# Altium schematic symbol library ARCOM_Transistors.SchLib: 48 symbols
Pins are listed as number, name and electrical type; pins without a type are passive.

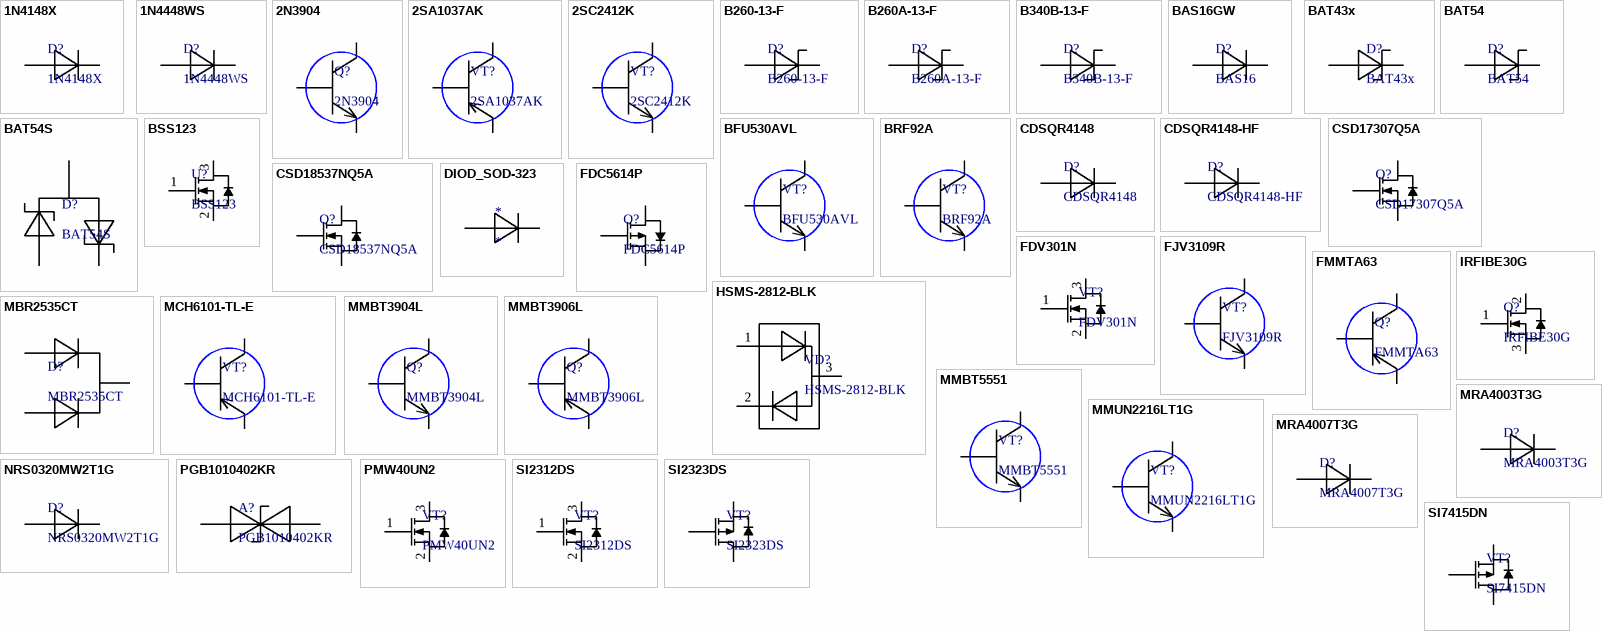
[diagram p0: symbols 1N4148X to SI7415DN]

## 1N4148X
designator D?
200mW Switching Diodes; Manufacturer: Micro Commercial Components; ComponentLink1Description: Manufacturer; ComponentLink2Description: Datasheet; Manufacturer P/N: 1N4148X; Part: 1N4148X; Family: Diodes&Transistors
footprint SOD-523
pins: 1 K, 2 A

## 1N4448WS
designator D?
Small Signal Diode; Manufacturer: ON Semiconductor; ComponentLink1Description: Manufacturer; ComponentLink1URL: https://www.onsemi.com/; ComponentLink2Description: Datasheet; ComponentLink2URL: https://www.mouser.com/datasheet/2/308/1N914BWS-D-1801390.pdf; Family: Diodes&Transistors; Manufacturer P/N: 1N4448WS; Part: 1N4448WS
footprint SOD-323
pins: 1 K, 2 A

## 2N3904
designator Q?
NPN General Purpose Transistors; Manufacturer: ON Semiconductor; ComponentLink1Description: Manufacturer; ComponentLink1URL: http://onsemi.com; ComponentLink2Description: Datasheet; ComponentLink2URL: https://www.onsemi.com/pub/Collateral/2N3903-D.PDF; Family: Diodes&Transistors; Manufacturer p/n: 2N3904; Part: 2N3904
pins: 1 E, 2 B, 3 C

## 2SA1037AK
designator VT?
PNP General Purpose Transistor; Manufacturer: ROHM; ComponentLink1Description: Manufacturer; ComponentLink1URL: www.rohm.com; ComponentLink2Description: Datasheet; ComponentLink2URL: http://rohmfs.rohm.com/en/products/databook/datasheet/discrete/transistor/bipolar/2sa1037ak.pdf; Manufacturer P/N: 2SA1037AK; Part: 2SA1037AK; Family: Diodes&Transistors
footprint AO-SOT23-3_V (SOT23, 3-Leads, Body 3.016x2.8mm, Pitch 0.95mm)
pins: 1 B, 2 E, 3 C

## 2SC2412K
designator VT?
General Purpose Transistor; Manufacturer: Rohm Electronics USA, LLC; ComponentLink1Description: Manufacturer; ComponentLink2Description: Datasheet; Manufacturer P/N: 2SC2412K; Part: 2SC2412K; Family: Diodes&Transistors
footprint Model Name (Footprint not found)
footprint SOT-346
pins: 1 B, 2 E, 3 C

## B260-13-F
designator D?
Schottky Diode; Manufacturer: Diodes Incorporated; ComponentLink1Description: Manufacturer; ComponentLink1URL: *; ComponentLink2Description: Datasheet; ComponentLink2URL: http://www.mouser.com/ds/2/115/ds13004-70120.pdf; Manufacturer P/N: B260-13-F; Part: B260-13-F; Family: Diodes&Transistors
footprint SMB_Arcom
pins: 1 A, 2 K

## B260A-13-F
designator D?
Schottky Diode; Manufacturer: Diodes Incorporated; ComponentLink1Description: Manufacturer; ComponentLink1URL: *; ComponentLink2Description: Datasheet; ComponentLink2URL: http://www.mouser.com/ds/2/115/ds13004-70120.pdf; Manufacturer P/N: B260A-13-F; Part: B260A-13-F; Family: Diodes&Transistors
footprint SMA
pins: 1 A, 2 K

## B340B-13-F
designator D?
3.0A surface mount Schottky barrier rectifier; Manufacturer: Diodes Incorporated; .Checked: 20180221; ComponentLink1Description: Manufacturer; ComponentLink1URL: https://www.diodes.com/; ComponentLink2Description: Datasheet; ComponentLink2URL: https://www.diodes.com/assets/Datasheets/ds30924.pdf; Manufacturer P/N: B340B-13-F; Part: B340B-13-F; Family: Diodes&Transistors
footprint SMB_Arcom
pins: 1 A, 2 K

## BAS16GW
designator D?, comment BAS16
High-speed switching diode; Manufacturer: Nexperia; Manufacturer P/N: BAS16GW; ComponentLink1Description: *; ComponentLink1URL: *; ComponentLink2Description: *; ComponentLink2URL: *; Family: *; Part: BAS16GW
footprint SOD-123F
pins: 1 A, 2 K

## BAT43x
designator D?
Schottky Diode; ComponentLink1Description: *; ComponentLink1URL: *; ComponentLink2Description: *; ComponentLink2URL: *; Manufacturer: *; Manufacturer p/n: *; family: *; Part: *
footprint FAIR-SOD-523F-2_V (SMD, 2-Leads, Body 1.2x0.8mm, Height 0.7mm)
pins: 1 A, 2 K

## BAT54
designator D?
Schottky Barrier Diode; Manufacturer: ON Semiconductor; Manufacturer P/N: BAT54LT1G; ComponentLink1Description: Manufacturer; ComponentLink1URL: www.onsemi.com/; ComponentLink2Description: Datasheet; ComponentLink2URL: https://www.mouser.com/datasheet/2/308/BAT54LT1-D-104526.pdf; Part: BAT54LT1G; Family: Diodes&Transistors
footprint AO-SOT23-3_V (SOT23, 3-Leads, Body 3.016x2.8mm, Pitch 0.95mm)
pins: 1 A, 3 K

## BAT54S
designator D?
Schottky Barrier Diode; Manufacturer: Diodes Incorporated; Manufacturer P/N: BAT54S-7-F; ComponentLink1Description: Manufacturer; ComponentLink2Description: Datasheet; Part: BAT54S; Family: Diodes&Transistors
footprint AO-SOT23-3_V (SOT23, 3-Leads, Body 3.016x2.8mm, Pitch 0.95mm)
pins: 1 A, 2 K, 3 K

## BFU530AVL
designator VT?
Silicon NPN Planar RF Transistor; Manufacturer: NXP Semiconductor; MarkingSMD: HY* :*=t made in Malaysia, *=w made in China; ComponentLink1Description: Manufacturer; ComponentLink1URL: http://www.nxp.com; ComponentLink2Description: Datasheet; ComponentLink2URL: http://www.mouser.com/ds/2/302/BFU530A-840762.pdf; Manufacturer P/N: BFU530AVL; Part: BFU530AVL; Family: Diodes&Transistors
footprint AO-SOT23-3_V (Footprint not found)
pins: 1 B, 2 E, 3 C

## BRF92A
designator VT?
Obsolete! Use BFU530AVL instead.; Manufacturer: Philips Semiconductors; MarkingSMD: +P2; ComponentLink1Description: Manufacturer; ComponentLink2Description: Datasheet; ComponentLink2URL: http://pdf.datasheetcatalog.com/datasheet/vishay/85033.pdf; Manufacturer P/N: BRF92A; Part: BRF92A; Family: Diodes&Transistors
footprint AO-SOT23-3_V (Footprint not found)
pins: 1 B, 2 E, 3 C

## BSS123
designator U?
N-Channel Power MOSFET Transistor
pins: 1 G, 2 S, 3 D

## CDSQR4148
designator D?
Switching Diode; ComponentLink1Description: *; ComponentLink1URL: *; ComponentLink2Description: *; ComponentLink2URL: *; Family: *; Manufacturer: *; Manufacturer P/N: *; Part: *
footprint SOD-923F
pins: 1 A, 2 K

## CDSQR4148-HF
designator D?
Switching Diode; Manufacturer: Comchip Technology CO., LTD.; ComponentLink1Description: Manufacturer; ComponentLink1URL: https://www.comchiptech.com/; ComponentLink2Description: Datasheet; ComponentLink2URL: https://www.comchiptech.com/admin/files/product/CDSQR4148-HF-RevC213424.pdf; Family: Transistors; Manufacturer P/N: CDSQR4148-HF; Part: CDSQR4148-HF
footprint SOD-923F
footprint SOD-923F - new
pins: 1 A, 2 K

## CSD17307Q5A
designator Q?
30V, N-channel NexFET Power Mosfet; Manufacturer: Texas Instruments; ComponentLink1Description: Manufacturer; ComponentLink1URL: www.ti.com; ComponentLink2Description: Datasheet; ComponentLink2URL: http://www.ti.com/lit/ds/symlink/csd17307q5a.pdf; family: Transistors; Manufacturer P/N: CSD17307Q5A; Part: CSD17307Q5A
footprint CSD17307Q5A
pins: 1 S, 2 G, 3 D

## CSD18537NQ5A
designator Q?
30V, N-channel NexFET Power Mosfet; Manufacturer: Texas Instruments; ComponentLink1Description: Manufacturer; ComponentLink1URL: www.ti.com; ComponentLink2Description: Datasheet; ComponentLink2URL: http://www.ti.com/lit/ds/symlink/csd18537nq5a.pdf; family: Transistors; Manufacturer P/N: CSD18537NQ5A; Part: CSD18537NQ5A
footprint CSD17307Q5A
pins: 1 S, 2 G, 3 D

## DIOD_SOD-323
designator *
footprint SOD-323
pins: 1 C, 2 A

## FDC5614P
designator Q?
60V, P-channel Logic Level PowerTrench MOSFET; Manufacturer: Fairchild; Manufacturer P/N: FDC5614P; ComponentLink1Description: Manufacturer; ComponentLink1URL: *; ComponentLink2Description: Datasheet; ComponentLink2URL: *; Family: Diodes&Transistors; Part: FDC5614P
footprint SSOT-6
pins: 1 D, 3 G, 4 S

## FDV301N
designator VT?
Digital FET, N-channel; Manufacturer: ON Semiconductor; Marking: 301; ComponentLink1Description: Manufacturer; ComponentLink1URL: https://www.onsemi.com; ComponentLink2Description: Datasheet; ComponentLink2URL: https://www.onsemi.com/pub/Collateral/FDV301N-D.PDF; Manufacturer P/N: FDV301N; Part: FDV301N; Family: Diodes&Transistors
footprint AO-SOT23-3_V (SOT23, 3-Leads, Body 3.016x2.8mm, Pitch 0.95mm)
pins: 1 G, 2 S, 3 D

## FJV3109R
designator VT?
Obsolete! Use MMUN2216LT1G instead.; Manufacturer: Fairchild; MarkingSMD: R29; ComponentLink1Description: Manufacturer; ComponentLink1URL: https://www.fairchildsemi.com/; ComponentLink2Description: Datasheet; ComponentLink2URL: http://pdf.datasheetcatalog.com/datasheet/fairchild/FJV3109R.pdf; Manufacturer P/N: FJV3109R; Part: FJV3109R; Family: Diodes&Transistors
footprint AO-SOT23-3_V (SOT23, 3-Leads, Body 3.016x2.8mm, Pitch 0.95mm)
pins: 1 B, 2 E, 3 C

## FMMTA63
designator Q?
Sot23 pnp Silicon Planar Darlington Transistor; Manufacturer: Atmel; Marking SMD: Z2U; ComponentLink1Description: *; ComponentLink1URL: *; ComponentLink2Description: *; ComponentLink2URL: *; Manufacturer p/n: FMMTA63; Family: Transistors; Part: FMMTA63
pins: 1 B, 2 E, 3 C

## HSMS-2812-BLK
designator VD?
Surface mount RF Schottky Barrier Diodes; Manufacturer: Agilent Technologies; ComponentLink1Description: Manufacturer; ComponentLink1URL: *; ComponentLink2Description: Datasheet; ComponentLink2URL: http://pdf1.alldatasheet.com/datasheet-pdf/view/155573/HP/HSMS-2812-BLK.html; Manufacturer P/N: HSMS-2812-BLK; Part: HSMS-2812-BLK; Family: Diodes&Transistors
footprint HSMS-2812
pins: 1, 2, 3

## IRFIBE30G
designator Q?
N-channel Power Mosfet; Manufacturer: Vishay; ComponentLink1Description: *; ComponentLink1URL: *; ComponentLink2Description: Datasheet; ComponentLink2URL: http://www.vishay.com/docs/91184/91184.pdf; Family: Diodes&Transistors; Manufacturer p/n: IRFIBE30G; Part: IRFIBE30G
pins: 1 G, 2 D, 3 S

## MBR2535CT
designator D?
Switch-mode Power Rectifiers; Manufacturer: ON Semiconductor; ComponentLink1Description: *; ComponentLink1URL: *; ComponentLink2Description: Datasheet; ComponentLink2URL: https://www.onsemi.com/pub/Collateral/MBR2535CT-D.PDF; Family: Diodes&Transistors; Manufacturer p/n: MBR2535CT; Part: MBR2535CT
pins: 1 A, 2 K, 3 A, 4 K

## MCH6101-TL-E
designator VT?
PNP Bipolar Transistor, -15V, -1.5A; Manufacturer: ON Semiconductor; ComponentLink1Description: Manufacturer; ComponentLink2Description: Datasheet; Manufacturer P/N: MCH6101-TL-E; Part: MCH6101-TL-E; Family: Diodes&Transistors
footprint ONSC-MCPH-6_V (SOT23, 6-Leads, Body 2x1.6mm, Pitch 0.65mm)
pins: 1 C, 2 C, 3 B, 4 E, 5 C, 6 C

## MMBT3904L
designator Q?
NPN General Purpose Transistor; Manufacturer: ON Semiconductor; Marking SMD: 1AM; ComponentLink1Description: *; ComponentLink1URL: *; ComponentLink2Description: *; ComponentLink2URL: *; Family: Transistors; Manufacturer p/n: MMBT3904L; Part: MMBT3904L
pins: 1 B, 2 E, 3 C

## MMBT3906L
designator Q?
PNP General Purpose Transistor; Manufacturer: ON Semiconductor; Marking SMD: 2A; ComponentLink1Description: *; ComponentLink1URL: *; ComponentLink2Description: *; ComponentLink2URL: *; Family: Transistors; Manufacturer p/n: MMBT3906L; Part: MMBT3906L
pins: 1 B, 2 E, 3 C

## MMBT5551
designator VT?
NPN General Purpose Transistor; Manufacturer: Fairchild; MarkingSMD: 3S; ComponentLink1Description: Manufacturer; ComponentLink1URL: https://www.fairchildsemi.com/; ComponentLink2Description: Datasheet; ComponentLink2URL: http://www.cordellaudio.com/book/datasheets/2N5551.pdf; Manufacturer P/N: MMBT5551; Part: MMBT5551; Family: Diodes&Transistors
footprint AO-SOT23-3_V (SOT23, 3-Leads, Body 3.016x2.8mm, Pitch 0.95mm)
pins: 1 B, 2 E, 3 C

## MMUN2216LT1G
designator VT?
NPN Transistor with Monolithic Bias Resistor Network; Manufacturer: On Semi; MarkingSMD: A8F; ComponentLink1Description: Manufacturer; ComponentLink1URL: https://www.onsemi.com/; ComponentLink2Description: Datasheet; ComponentLink2URL: http://www.mouser.com/ds/2/308/DTC143T-D-462120.pdf; Manufacturer P/N: MMUN2216LT1G; Part: MMUN2216LT1G; Family: Diodes&Transistors
footprint AO-SOT23-3_V (SOT23, 3-Leads, Body 3.016x2.8mm, Pitch 0.95mm)
pins: 1 B, 2 E, 3 C

## MRA4003T3G
designator D?
Surface Mount Standard Recovery Power Rectifier; Manufacturer: ON Semiconductor; ComponentLink1Description: Manufacturer; ComponentLink1URL: https://www.onsemi.com/; ComponentLink2Description: Datasheet; ComponentLink2URL: https://www.onsemi.com/pub/Collateral/MRA4003T3-D.PDF; Manufacturer P/N: MRA4003T3G; Part: MRA4003T3G; Family: Diodes&Transistors
footprint SMA
pins: 1 A, 2 K

## MRA4007T3G
designator D?
Surface Mount Standard Recovery Power Rectifier; Manufacturer: ON Semiconductor; ComponentLink1Description: Manufacturer; ComponentLink1URL: https://www.onsemi.com/; ComponentLink2Description: Datasheet; Manufacturer P/N: MRA4007T3G; Part: MRA4007T3G; Family: Diodes&Transistors
footprint SMA
pins: 1 A, 2 K

## NRS0320MW2T1G
designator D?
HIGH CURRENT  SCHOTTKY BARRIER DIODE; Manufacturer: ON Semiconductor; ComponentLink1Description: Manufacturer; ComponentLink1URL: https://www.onsemi.com/; ComponentLink2Description: Datasheet; ComponentLink2URL: https://www.mouser.com/datasheet/2/308/NSR0320MW2T1_D-1815653.pdf; Family: Diodes&Transistors; Manufacturer P/N: NRS0320MW2T1G; Part: NRS0320MW2T1G
footprint SOD-323
pins: 1 K, 2 A

## PGB1010402KR
designator A?
Surface mount Polimeric ESD Suppressors; Manufacturer: LittelFuse; ComponentLink1Description: Manufacturer; ComponentLink1URL: http://www.littelfuse.com; ComponentLink2Description: Datasheet; ComponentLink2URL: http://www.littelfuse.com/data/en/data_sheets/littelfuse_pulseguard_esd_pgb1.pdf; Manufacturer P/N: PGB1010402KR; Part: PGB1010402KR; Family: Diodes&Transistors
footprint C0402_L (Chip Capacitor, Body 1.0x0.5mm, Height 0.6mm, IPC High Density)
footprint C0402_M (Chip Capacitor, Body 1.0x0.5mm, Height 0.6mm, IPC Low Density)
footprint C0402_N (Chip Capacitor, Body 1.0x0.5mm, Height 0.6mm, IPC Medium Density)
pins: 1 A1, 2 A2

## PMW40UN2
designator VT?
N-Channel  30V Trench MOSFET; Manufacturer: NXP; Manufacturer P/N: PMW40U2; ComponentLink1Description: Manufacturer; ComponentLink1URL: http://www.nxp.com/; ComponentLink2Description: Datasheet; ComponentLink2URL: http://www.nxp.com/documents/data_sheet/PMV40UN2.pdf; family: Diodes&Transistors; Part: PMW40U2
footprint NXP-SOT23_L (SOT23, 3-Leads, Body 3x1.4mm, Pitch 0.95mm, IPC High Density)
footprint NXP-SOT23_M (SOT23, 3-Leads, Body 3x1.4mm, Pitch 0.95mm, IPC Low Density)
footprint NXP-SOT23_N (SOT23, 3-Leads, Body 3x1.4mm, Pitch 0.95mm, IPC Medium Density)
pins: 1 G, 2 S, 3 D

## SI2312DS
designator VT?
N-Channel  20V (D-S) MOSFET; Manufacturer: Vishay Siliconix; ComponentLink1Description: Manufacturer; ComponentLink1URL: http://www.vishay.com; ComponentLink2Description: Datasheet; ComponentLink2URL: http://www.vishay.com/docs/71338/si2312ds.pdf; Manufacturer P/N: Si2312DS; Part: Si2312DS; ComponentLink3Description: R-C Thermal Model Parameters; ComponentLink3URL: http://www.vishay.com/docs/65949/SI2312CD.pdf; Family: Diodes&Transistors
footprint AO-SOT23-3_V (SOT23, 3-Leads, Body 3.016x2.8mm, Pitch 0.95mm)
pins: 1 G, 2 S, 3 D

## SI2323DS
designator VT?
P-Channel  20V (D-S) MOSFET; Manufacturer: Vishay Siliconix; Manufacturer P/N: SI2323DS-T1-E3; ComponentLink1Description: Manufacturer; ComponentLink1URL: http://www.vishay.com; ComponentLink2Description: Datasheet; ComponentLink2URL: http://www.farnell.com/datasheets/1866497.pdf; Part: SI2323DS; ComponentLink3Description: Datasheet2; Family: Diodes&Transistors
footprint AO-SOT23-3_V (SOT23, 3-Leads, Body 3.016x2.8mm, Pitch 0.95mm)
pins: 1 G, 2 S, 3 D

## SI7415DN
designator VT?
P-Channel  60V (D-S) MOSFET; Manufacturer: Vishay Siliconix; ComponentLink1Description: Manufacturer; ComponentLink1URL: http://www.vishay.com; ComponentLink2Description: Datasheet; ComponentLink2URL: http://www.vishay.com/docs/71691/71691.pdf; Manufacturer P/N: SI7415DN; Part: SI7415DN; ComponentLink3Description: Datasheet2; Family: Diodes&Transistors
footprint Si7617DN
pins: 1 S, 2 G, 3 D

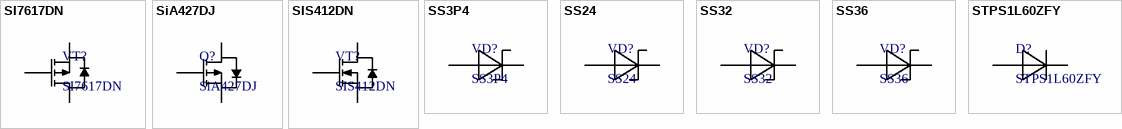
[diagram p1: symbols SI7617DN to STPS1L60ZFY]

## SI7617DN
designator VT?
P-Channel  30V (D-S) MOSFET; Manufacturer: Vishay Siliconix; ComponentLink1Description: Manufacturer; ComponentLink1URL: http://www.vishay.com; ComponentLink2Description: Datasheet; ComponentLink2URL: http://www.vishay.com/docs/65164/si7617dn.pdf; Manufacturer P/N: SI7617DN; Part: SI7617DN; ComponentLink3Description: Datasheet2; Family: Diodes&Transistors
footprint Si7617DN
pins: 1 S, 2 G, 3 D

## SiA427DJ
designator Q?
8V, P-channel MOSFET; Manufacturer: Vishay; Manufacturer P/N: SiA427DJ; ComponentLink1Description: Manufacturer; ComponentLink1URL: *; ComponentLink2Description: Datasheet; ComponentLink2URL: *; Family: Diodes&Transistors; Part: SiA427DJ
footprint SC-70-6L-Single
pins: 1 D, 3 G, 4 S

## SIS412DN
designator VT?
N-Channel 30-V (D-S) MOSFET; Manufacturer: Vishay Siliconix; ComponentLink1Description: Manufacturer; ComponentLink1URL: http://www.vishay.com; ComponentLink2Description: Datasheet; ComponentLink2URL: http://www.farnell.com/datasheets/1915534.pdf; Manufacturer P/N: SIS412DN; Part: SIS412DN; Family: Diodes&Transistors
footprint Si7617DN
pins: 1 S, 2 G, 3 D

## SS3P4
designator VD?
High Current Density Surface Mount Schottky Rectifier; Manufacturer: Vishay; ComponentLink1Description: Manufacturer; ComponentLink1URL: http://www.vishay.com; ComponentLink2Description: Datasheet; ComponentLink2URL: http://www.vishay.com/docs/88954/ss3p4.pdf; Manufacturer P/N: SS3P4; Part: SS3P4; Family: Diodes&Transistors
footprint DO-220AA(1)
pins: 1 K, 2 A

## SS24
designator VD?
Schottky Diode; Manufacturer: ON Semiconductor; ComponentLink1Description: Manufacturer; ComponentLink1URL: http://www.onsemi.com/; ComponentLink2Description: Datasheet; ComponentLink2URL: http://www.onsemi.com/pub_link/Collateral/SS24-D.PDF; Manufacturer P/N: SS24; Part: SS24; Family: Diodes&Transistors
footprint ONSC-SMB-2-403A-03_V (Molded, 2-Leads, Body 4.6x3.95mm)
pins: 1 K, 2 A

## SS32
designator VD?
Schottky Diode; Manufacturer: ON Semiconductor; ComponentLink1Description: Manufacturer; ComponentLink1URL: http://www.onsemi.com/; ComponentLink2Description: Datasheet; ComponentLink2URL: http://www.farnell.com/datasheets/1774678.pdf; Manufacturer P/N: SS32; Part: SS32; Family: Diodes&Transistors
footprint ONSC-SMC-2-403-03_V (Molded, 2-Leads, Body 6.86x5.84mm)
pins: 1 K, 2 A

## SS36
designator VD?
Schottky Diode; Manufacturer: ON Semiconductor; ComponentLink1Description: Manufacturer; ComponentLink1URL: http://www.onsemi.com/; ComponentLink2Description: Datasheet; ComponentLink2URL: http://www.farnell.com/datasheets/1774678.pdf; Manufacturer P/N: SS36; Part: SS36; Family: Diodes&Transistors
footprint ONSC-SMC-2-403-03_V (Molded, 2-Leads, Body 6.86x5.84mm)
pins: 1 K, 2 A

## STPS1L60ZFY
designator D?
Automotive low drop power Schottky rectifier; Manufacturer: STMicroelectronics; ComponentLink1Description: *; ComponentLink1URL: *; ComponentLink2Description: *; ComponentLink2URL: *; Manufacturer P/N: STPS1L60ZFY; Part: STPS1L60ZFY
footprint SOD-123F
pins: 1 K, 2 A